# EAGLE library part CHARGE-MCP7383X (library Pygmy)
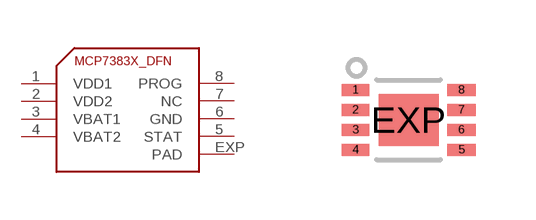
[diagram p42: symbol with the pads of DFN-2X3; footprint DFN-2X3]

Designator prefix -

## CHARGE-MCP7383X  [DFN-2X3]
1  VDD1
2  VDD2
3  VBAT1
4  VBAT2
5  STAT
6  GND
7  NC
8  PROG
EXP  PAD

## Footprint DFN-2X3 (pad centres in mm)
8-Lead Plastic Dual Flat No Lead Package (MC) 2x3x0.9 mm Body (DFN) - Saw Singulated Source: http://ww1.microchip.com/downloads/en/DeviceDoc/21796H.pdf
smd 0.7 x 0.3: 1 -1.325,0.75; 2 -1.325,0.25; 3 -1.325,-0.25; 4 -1.325,-0.75; 5 1.325,-0.75; 6 1.325,-0.25; 7 1.325,0.25; 8 1.325,0.75
smd 1.5 x 1.3: EXP 0,0